# EAGLE library part AOZ1050PI (library LunchBox48_ASIC_board)
Alpha and Omega semi AOZ1050PI Buck reg 2A
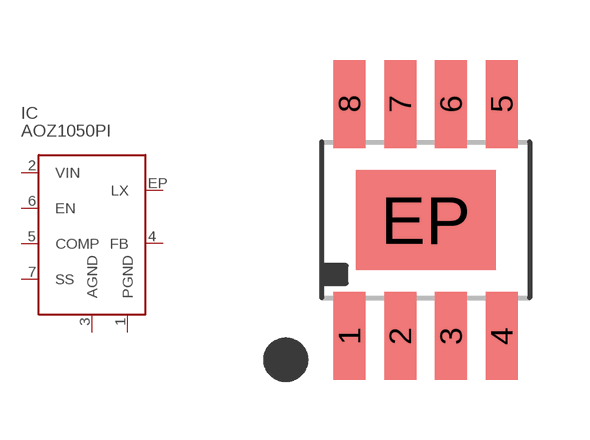
[diagram p6: symbol with the pads of SO-8_EP; footprint SO-8_EP]

Designator prefix IC

## AOZ1050PI  [SO-8_EP]
1  PGND  pwr
2  VIN  pwr
3  AGND  pwr
4  FB  in
5  COMP  out
6  EN  in
7  SS  out
EP  LX  pwr

## Footprint SO-8_EP (pad centres in mm)
smd 0.8 x 2.2: 1 -1.905,-2.905; 2 -0.635,-2.905; 3 0.635,-2.905; 4 1.905,-2.905; 5 1.905,2.905; 6 0.635,2.905; 7 -0.635,2.905; 8 -1.905,2.905
smd 3.5 x 2.5: EP 0,0